# Altium footprint library Molex-SD-73415-298.PcbLib: 1 footprints
Each footprint in its own frame and in the unit in brackets; x right, y up, seen from the top. Pads: shape width x height; smd on the part's side, far side on the other; paste and mask are expansions set on the pad; w line width, h text height; cw(c..) or ccw(c..) is an arc to the next point about the centre after c.
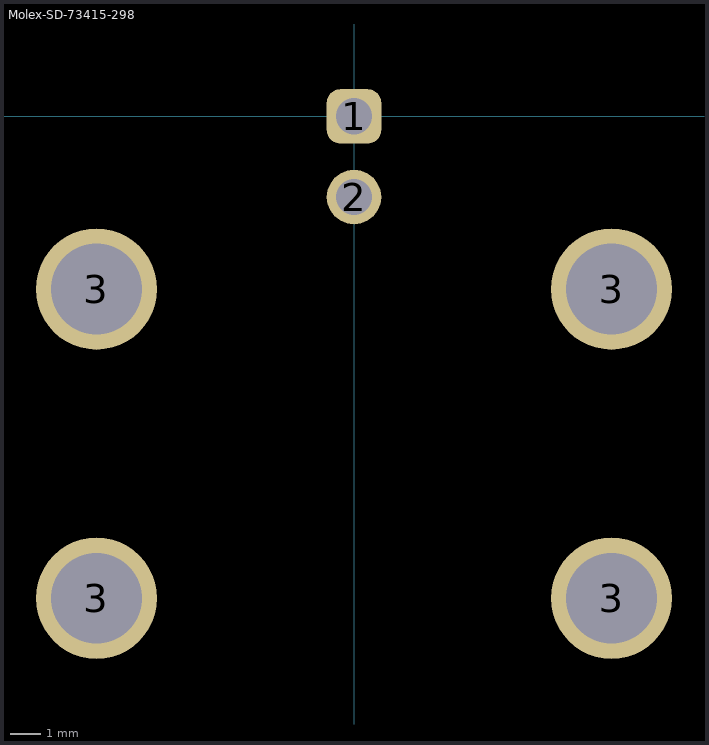
[diagram p0: the footprint, top view; thin cyan lines are the x and y axes]

## Molex-SD-73415-298 [mm]
pads (6):
  rrect50% 1.8x1.8 hole 1.2: 1(0,0)
  round 1.8 hole 1.2: 2(0,-2.66)
  round 4 hole 3: 3(-8.5,-15.9) 3(-8.5,-5.7) 3(8.5,-15.9) 3(8.5,-5.7)
3D body "73415-3980.stp": height 30.6, standoff -5, extent -8.8,-32.78 8.8,0.5